# EAGLE library part 74LVC1T45 (library lichtenstein_onion)
SINGLE BIT DUAL POWER SUPPLY TRANSLATING TRANSCEIVER WITH 3 STATE OUTPUTS Datasheet <https://www.mouser.com/datasheet/2/115/74LVC1T45-318124.pdf>
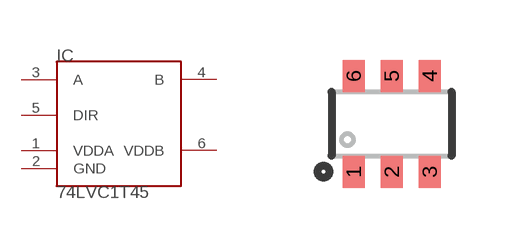
[diagram p22: symbol with the pads of SOT26; footprint SOT26]

Designator prefix IC

## 74LVC1T45SOT26 (MOUSER: 621-74LVC1T45W6-7)  [SOT26]
1  VDDA  pwr
2  GND  pwr
3  A
4  B
5  DIR  in
6  VDDB  pwr

## Footprint SOT26 (pad centres in mm)
Footprint for SOT-26 part DMP2240UDM
smd 0.55 x 0.8: 1 -0.95,-1.2; 2 0,-1.2; 3 0.95,-1.2; 4 0.95,1.2; 5 0,1.2; 6 -0.95,1.2